# Altium schematic symbol library ArduinoShield.SchLib: 2 symbols
Pins are listed as number, name and electrical type; pins without a type are passive.

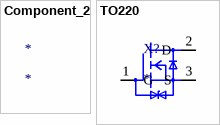
[diagram p0: symbols Component_2 to TO220]

## Component_2
designator *

## TO220
designator X?
footprint to220
pins: 1 G, 2 D, 3 S